# EAGLE library part CURRENT_SENSOR_2 (library QuantumOptics)
Danfysik Ultrastab Current Sensor, precision current sensor, DB9 connector. The decal is actually the DB-9, use an extension cable to connect to the device. The connector is AMP 745131 (Digikey.ca A23334-ND) DB-9: http://rocky.digikey.com/WebLib/Amp/Web%20Data/745131-1.pdf Ultrastab: http://danfysik.com/02onboard_electronics.htm
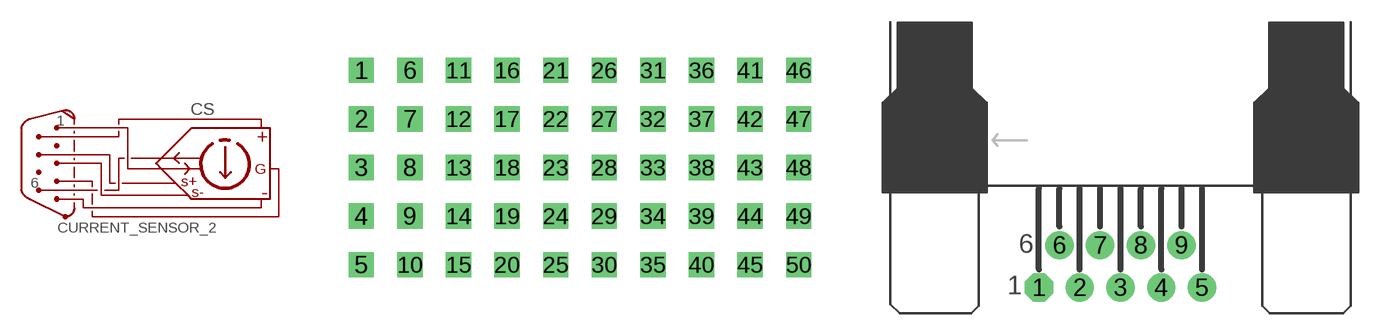
[diagram p88: symbol with the pads of PLACEHOLDER; footprints PLACEHOLDER, CONN:DB9-HORIZ2]

Designator prefix CS

## CURRENT_SENSOR_2  [PLACEHOLDER]
1  1
2  2
3  3
4  4
5  5
6  6
7  7
8  8
9  9
10  SHLD

## CURRENT_SENSOR_2-DB9-HORIZ2  [CONN:DB9-HORIZ2]
1  1
2  2
3  3
4  4
5  5
6  6
7  7
8  8
9  9

## Footprint PLACEHOLDER (pad centres in mm)
Non-existant decal, a Placeholder, used to make a part which does not need a package but Eagle demands something, e.g. if making schematic only and don't care about PCB. Pins are labeled "1" through "50".
drill 0.813 square: 1 -7.62,10.16; 2 -7.62,7.62; 3 -7.62,5.08; 4 -7.62,2.54; 5 -7.62,0; 6 -5.08,10.16; 7 -5.08,7.62; 8 -5.08,5.08; 9 -5.08,2.54; 10 -5.08,0; 11 -2.54,10.16; 12 -2.54,7.62; 13 -2.54,5.08; 14 -2.54,2.54; 15 -2.54,0; 16 0,10.16; 17 0,7.62; 18 0,5.08; 19 0,2.54; 20 0,0; 21 2.54,10.16; 22 2.54,7.62; 23 2.54,5.08; 24 2.54,2.54; 25 2.54,0; 26 5.08,10.16; 27 5.08,7.62; 28 5.08,5.08; 29 5.08,2.54; 30 5.08,0; 31 7.62,10.16; 32 7.62,7.62; 33 7.62,5.08; 34 7.62,2.54; 35 7.62,0; 36 10.16,10.16; 37 10.16,7.62; 38 10.16,5.08; 39 10.16,2.54; 40 10.16,0; 41 12.7,10.16; 42 12.7,7.62; 43 12.7,5.08; 44 12.7,2.54; 45 12.7,0; 46 15.24,10.16; 47 15.24,7.62; 48 15.24,5.08; 49 15.24,2.54; 50 15.24,0

## Footprint CONN:DB9-HORIZ2 (pad centres in mm)
DB-9 PCB mount, metal case, fits AMP 14.99mm mount such as 5745990-x (Digikey A32133-ND for -3) http://catalog.tycoelectronics.com/TE/bin/TE.Connect?C=1&M=BYPN&TCPN=5745990-3&RQPN=5745990-3
drill 1.067 pad 1.905 octagon: 1 -5.486,-1.422
drill 1.067 pad 1.905: 2 -2.743,-1.422; 3 0,-1.422; 4 2.743,-1.422; 5 5.486,-1.422; 6 -4.115,1.422; 7 -1.372,1.422; 8 1.372,1.422; 9 4.115,1.422
hole 3.175 at -12.5,8.4
hole 3.175 at 12.5,8.4